# Altium footprint library Switches.PcbLib: 8 footprints
Each footprint in its own frame and in the unit in brackets; x right, y up, seen from the top. Pads: shape width x height; smd on the part's side, far side on the other; paste and mask are expansions set on the pad; w line width, h text height; cw(c..) or ccw(c..) is an arc to the next point about the centre after c.
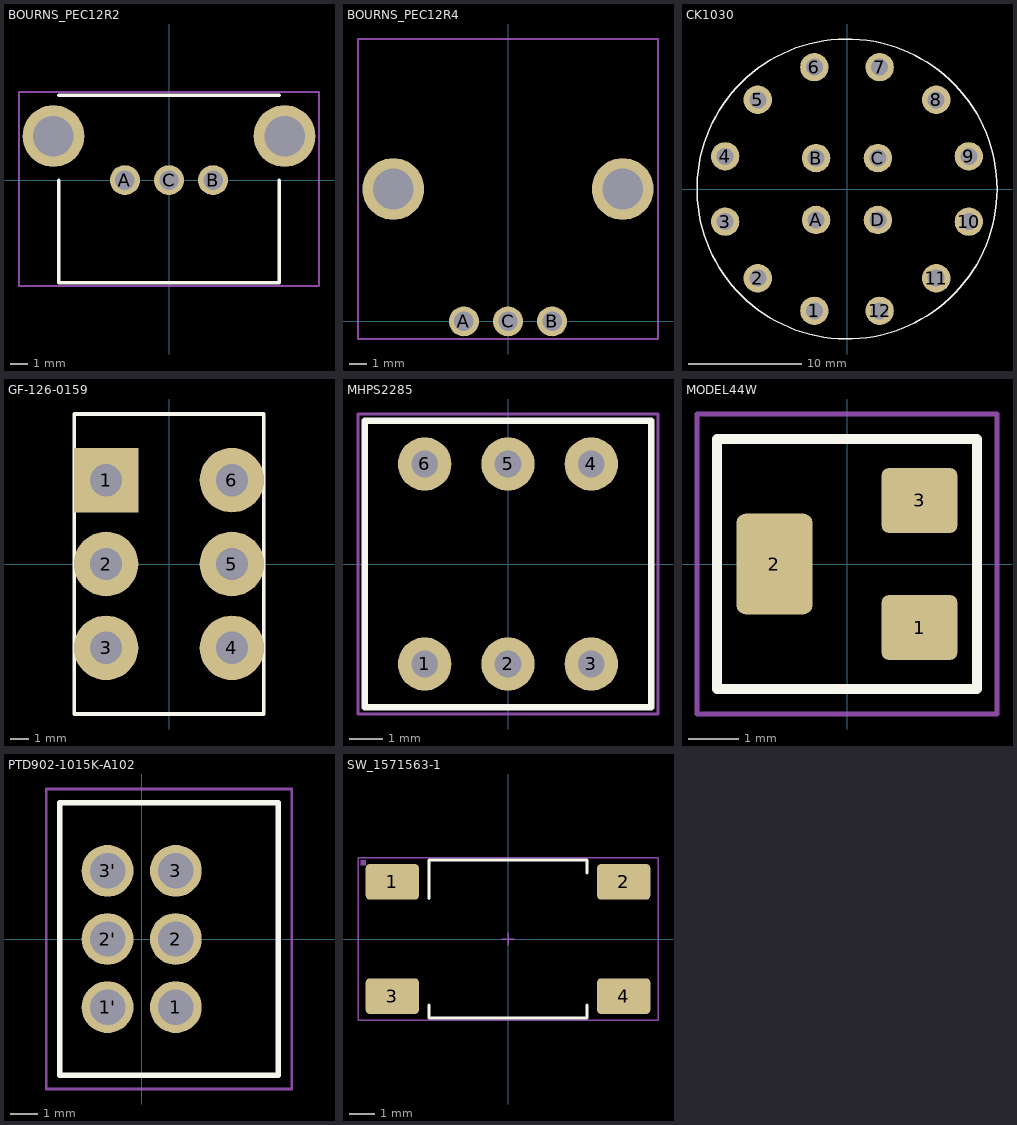
[diagram p0: the footprints below, top view; thin cyan lines are the x and y axes]

## BOURNS_PEC12R2 [mm] "PEC12R - 12 mm Incremental Encoder Horizontal"
height 17.5
pads (5):
  round 1.7 hole 1.1: A(-2.5,0) B(2.5,0) C(0,0)
  round 3.5 hole 2.3: ""(-6.55,2.5) ""(6.55,2.5)
Top Overlay:
  lines w0.2: -6.25,0 -6.25,-5.8 6.25,-5.8 6.25,0 ; -6.25,4.8 6.25,4.8
15.Courtyard TOP:
  lines w0.1: -8.5,-6 8.5,-6 8.5,5 -8.5,5 -8.5,-6
  text ".designator" at -1.5,-1 h1

## BOURNS_PEC12R4 [mm] "PEC12R - 12 mm Incremental Encoder Vertical"
height 17.5
pads (5):
  round 1.7 hole 1.1: A(-2.5,0) B(2.5,0) C(0,0)
  round 3.5 hole 2.3: ""(-6.5,7.5) ""(6.5,7.5)
15.Courtyard TOP:
  lines w0.1: -8.5,-1 -8.5,16 8.5,16 8.5,-1 -8.5,-1
  text ".designator" at 0,6 h1

## CK1030 [mm]
height 17.5
pads (16):
  round 2.5 hole 1.5: 1(-2.873,-10.722) 2(-7.849,-7.849) 3(-10.722,-2.873) 4(-10.722,2.873) 5(-7.849,7.849) 6(-2.873,10.722) 7(2.873,10.722) 8(7.849,7.849) 9(10.722,2.873) 10(10.722,-2.873) 11(7.849,-7.849) 12(2.873,-10.722) A(-2.722,-2.722) B(-2.722,2.722) C(2.722,2.722) D(2.722,-2.722)
Top Overlay:
  circle w0.12: c0,0 r13.2

## GF-126-0159 [mm]
pads (6):
  rect 3.54x3.54 hole 1.77: 1(-3.455,4.6)
  round 3.54 hole 1.77: 2(-3.455,0) 3(-3.455,-4.6) 4(3.455,-4.6) 5(3.455,0) 6(3.455,4.6)
Top Overlay:
  lines w0.2: -5.2,-8.23 5.2,-8.23 5.2,8.23 -5.2,8.23 -5.2,-8.23
15.Courtyard TOP:
  lines w0.1: -5.2,-8.23 -5.2,8.23 5.2,8.23 5.2,-8.23 -5.2,-8.23
  text ".designator" at -2.794,-0.762 h3
3D body: height 9.65, standoff -2.6, extent -3.1,-7 3.1,7

## MHPS2285 [mm] "Apem MHPS2285"
height 13.5
pads (6):
  round 1.6 hole 0.8: 1(-2.5,-3) 2(0,-3) 3(2.5,-3) 4(2.5,3) 5(0,3) 6(-2.5,3)
Top Overlay:
  lines w0.2: -4.3,-4.3 4.3,-4.3 4.3,4.3 -4.3,4.3 -4.3,-4.3
15.Courtyard TOP:
  lines w0.1: -4.5,-4.5 4.5,-4.5 4.5,4.5 -4.5,4.5 -4.5,-4.5
  text ".designator" at -1.5,-0.5 h1
  text "." at -3.5,-3.5 h1

## MODEL44W [mm] "4mm Square Multiturn Surface Mount Cermet Trimming Potentiometer"
height 5.08
pads (3):
  rrect23% 1.52x1.3 smd paste+0 mask+0: 1(1.45,-1.27) 3(1.45,1.27)
  rrect23% 1.52x2.01 smd paste+0 mask+0: 2(-1.45,0)
Top Overlay:
  lines w0.2: -2.6,-2.5 2.6,-2.5 2.6,2.5 -2.6,2.5 -2.6,-2.5
15.Courtyard TOP:
  lines w0.1: -3,-3 3,-3 3,3 -3,3 -3,-3
  text ".designator" at -1,-0.5 h1
3D body: height 5.6, standoff 0, extent -2,-2.4 1.7,2.4

## PTD902-1015K-A102 [mm]
pads (6):
  round 1.9 hole 1.3 paste+0 mask+0: 1(1.25,-2.5) 1'(-1.25,-2.5) 2(1.25,0) 2'(-1.25,0) 3(1.25,2.5) 3'(-1.25,2.5)
Top Overlay:
  lines w0.2: -3,-5 -3,5 5,5 5,-5 -3,-5
15.Courtyard TOP:
  lines w0.1: -3.5,-5.5 5.5,-5.5 5.5,5.5 -3.5,5.5 -3.5,-5.5
  text ".designator" at 0,-0.5 h1
3D body: height 11.32, standoff -3.48, extent -3.4,-4.75 21.252,4.75

## SW_1571563-1 [mm] "TE Connectivity / Alcoswitch"
height 5
pads (4):
  rrect23% 2.1x1.4 smd: 1(-4.55,2.25) 2(4.55,2.25) 3(-4.55,-2.25) 4(4.55,-2.25)
Top Overlay:
  lines w0.12: -3.1,-2.6 -3.1,-3.1 3.1,-3.1 3.1,-2.6 ; -3.1,1.6 -3.1,3.1 3.1,3.1 3.1,2.6
15.Courtyard TOP:
  lines w0.05: -0.25,0 0.25,0 ; 0,-0.25 0,0.25 ; -5.9,-3.2 -5.9,3.2 5.9,3.2 5.9,-3.2 -5.9,-3.2
18. Assembly TOP:
  region: -5.8,3.1 -5.6,3.1 -5.6,2.9 -5.8,2.9
  lines w0.05: -5.9,-3.2 5.9,-3.2 5.9,3.2 -5.9,3.2 -5.9,-3.2
  text ".designator" at -3.6,-0.7 h1.5
3D body: height 5.12, standoff 0.01, extent -5,-3 5,3